# Altium footprint library chipsLibPcb.PcbLib: 20 footprints (part 2 of 2)
Each footprint in its own frame and in the unit in brackets; x right, y up, seen from the top. Pads: shape width x height; smd on the part's side, far side on the other; paste and mask are expansions set on the pad; w line width, h text height; cw(c..) or ccw(c..) is an arc to the next point about the centre after c.
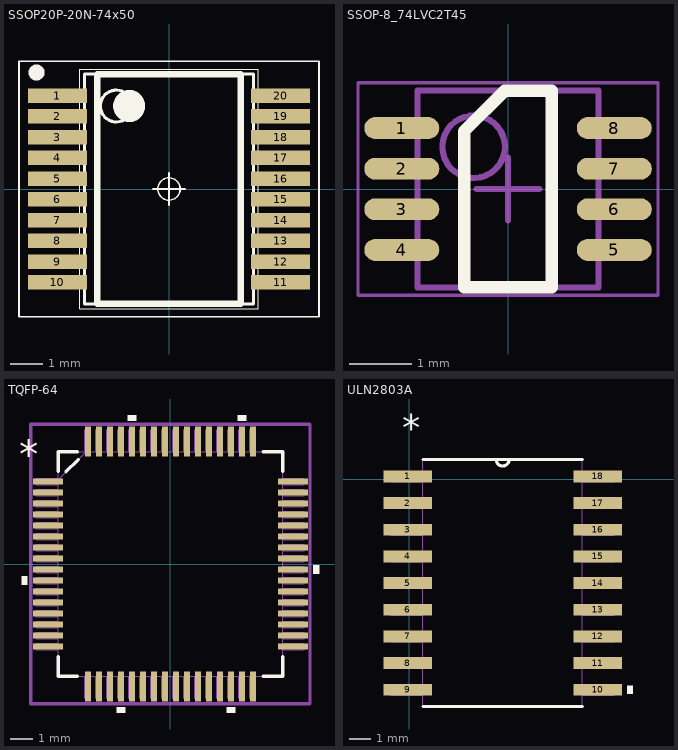
[diagram p1: the footprints below, top view; thin cyan lines are the x and y axes]

## SSOP20P-20N-74x50 [mm]
pads (20):
  rect 1.85x0.45 smd: 1(-3.5,2.925) 2(-3.5,2.275) 3(-3.5,1.625) 4(-3.5,0.975) 5(-3.5,0.325) 6(-3.5,-0.325) 7(-3.5,-0.975) 8(-3.5,-1.625) 9(-3.5,-2.275) 10(-3.5,-2.925) 11(3.5,-2.925) 12(3.5,-2.275) 13(3.5,-1.625) 14(3.5,-0.975) 15(3.5,-0.325) 16(3.5,0.325) 17(3.5,0.975) 18(3.5,1.625) 19(3.5,2.275) 20(3.5,2.925)
Top Overlay:
  circle w0.25: c-4.15,3.65 r0.125
  circle w0.5: c-1.25,2.6 r0.25
  circle w0.1: c-1.65,2.6 r0.5
  circle w0.05: c0,0 r0.35
  lines w0.001: -2.8,-3.75 -2.8,3.75 2.8,3.75 2.8,-3.75 -2.8,-3.75
  lines w0.05: -0.5,0 0.5,0 ; 0,-0.5 0,0.5 ; -4.7,-4 -4.7,4 4.7,4 4.7,-4 -4.7,-4
  lines w0.1: -2.65,-3.6 -2.65,3.6 2.65,3.6 2.65,-3.6 -2.65,-3.6
  lines w0.2: -2.25,-3.6 -2.25,3.6 2.25,3.6 2.25,-3.6 -2.25,-3.6
Mechanical 15:
  text "1" at 0.45,-0.164 h0.75

## SSOP-8_74LVC2T45 [mm]
pads (8):
  oval 1.2x0.35 smd paste+0 mask+0.051: 1(-1.7,0.975) 2(-1.7,0.325) 3(-1.7,-0.325) 4(-1.7,-0.975) 5(1.7,-0.975) 6(1.7,-0.325) 7(1.7,0.325) 8(1.7,0.975)
Top Overlay:
  lines w0.2: -0.7,-1.575 -0.7,0.925 -0.05,1.575 0.7,1.575 0.7,-1.575 -0.7,-1.575
Mechanical 13:
  circle w0.1: c-0.55,0.675 r0.5
  lines w0.1: -1.45,-1.575 1.45,-1.575 1.45,1.575 -1.45,1.575 -1.45,-1.575
Mechanical 15:
  lines w0.05: -2.4,-1.7 2.4,-1.7 2.4,1.7 -2.4,1.7 -2.4,-1.7
  lines w0.1: -0.5,0 0.5,0 ; 0,-0.5 0,0.5
3D body: height 0.25, standoff 0, extent 0,0 0.254,0.254

## TQFP-64 [mil]
pads (64):
  rect 53.5x11 smd: 1(-219.25,147.64) 2(-219.25,127.95) 3(-219.25,108.27) 4(-219.25,88.58) 5(-219.25,68.9) 6(-219.25,49.21) 7(-219.25,29.53) 8(-219.25,9.84) 9(-219.25,-9.84) 10(-219.25,-29.53) 11(-219.25,-49.21) 12(-219.25,-68.9) 13(-219.25,-88.58) 14(-219.25,-108.27) 15(-219.25,-127.95) 16(-219.25,-147.64) 33(219.25,-147.64) 34(219.25,-127.95) 35(219.25,-108.27) 36(219.25,-88.58) 37(219.25,-68.9) 38(219.25,-49.21) 39(219.25,-29.53) 40(219.25,-9.84) 41(219.25,9.84) 42(219.25,29.53) 43(219.25,49.21) 44(219.25,68.9) 45(219.25,88.58) 46(219.25,108.27) 47(219.25,127.95) 48(219.25,147.64)
  rect 11x53.5 smd: 17(-147.64,-219.25) 18(-127.95,-219.25) 19(-108.27,-219.25) 20(-88.58,-219.25) 21(-68.9,-219.25) 22(-49.21,-219.25) 23(-29.53,-219.25) 24(-9.84,-219.25) 25(9.84,-219.25) 26(29.53,-219.25) 27(49.21,-219.25) 28(68.9,-219.25) 29(88.58,-219.25) 30(108.27,-219.25) 31(127.95,-219.25) 32(147.64,-219.25) 49(147.64,219.25) 50(127.95,219.25) 51(108.27,219.25) 52(88.58,219.25) 53(68.9,219.25) 54(49.21,219.25) 55(29.53,219.25) 56(9.84,219.25) 57(-9.84,219.25) 58(-29.53,219.25) 59(-49.21,219.25) 60(-68.9,219.25) 61(-88.58,219.25) 62(-108.27,219.25) 63(-127.95,219.25) 64(-147.64,219.25)
Top Overlay:
  region: -256,-22.03 -266,-22.03 -266,-37.03 -256,-37.03
  region: -81.08,-256 -96.08,-256 -96.08,-266 -81.08,-266
  region: 115.77,-256 100.77,-256 100.77,-266 115.77,-266
  region: 256,-2.34 266,-2.34 266,-17.34 256,-17.34
  region: 135.45,256 120.45,256 120.45,266 135.45,266
  region: -61.4,256 -76.4,256 -76.4,266 -61.4,266
  lines w6: -201,-166.24 -201,-201 -166.24,-201 ; -201,166.24 -201,201 -166.24,201 ; -186.98,165.02 -165.02,186.98 ; 166.24,-201 201,-201 201,-166.24 ; 166.24,201 201,201 201,166.24
  text "*" at -271,172.48 h50
Mechanical 13:
  drawing of 261 lines, arcs and shapes, not listed
  text "*" at -271,172.48 h50
Mechanical 15:
  lines w6: -250,-250 -250,250 250,250 250,-250 -250,-250
3D body: height 10, standoff 0, extent 0,0 10,10

## ULN2803A [mil]
pads (18):
  rect 91x22 smd: 1(-3,5) 2(-3,-45) 3(-3,-95) 4(-3,-145) 5(-3,-195) 6(-3,-245) 7(-3,-295) 8(-3,-345) 9(-3,-395) 10(353,-395) 11(353,-345) 12(353,-295) 13(353,-245) 14(353,-195) 15(353,-145) 16(353,-95) 17(353,-45) 18(353,5)
Top Overlay:
  region: 408.5,-387.5 418.5,-387.5 418.5,-402.5 408.5,-402.5
  lines w6: 25.5,-426.5 324.5,-426.5 ; 25.5,36.5 324.5,36.5 ; 163,36.5 ccw(c175,36.5) 187,36.5
  text "*" at -13,72 h50
Mechanical 1:
  lines w0: 163,36.5 ccw(c175,36.5) 187,36.5 ; -34.5,-405 -34.5,-385 25.5,-385 25.5,-405 -34.5,-405 ; -34.5,-355 -34.5,-335 25.5,-335 25.5,-355 -34.5,-355 ; -34.5,-305 -34.5,-285 25.5,-285 25.5,-305 -34.5,-305 ; -34.5,-255 -34.5,-235 25.5,-235 25.5,-255 -34.5,-255 ; -34.5,-205 -34.5,-185 25.5,-185 25.5,-205 -34.5,-205 ; -34.5,-155 -34.5,-135 25.5,-135 25.5,-155 -34.5,-155 ; -34.5,-105 -34.5,-85 25.5,-85 25.5,-105 -34.5,-105 ; -34.5,-55 -34.5,-35 25.5,-35 25.5,-55 -34.5,-55 ; -34.5,-5 -34.5,15 25.5,15 25.5,-5 -34.5,-5 ; 25.5,-426.5 324.5,-426.5 324.5,36.5 25.5,36.5 25.5,-426.5 ; 324.5,-405 324.5,-385 384.5,-385 384.5,-405 324.5,-405 ; 324.5,-355 324.5,-335 384.5,-335 384.5,-355 324.5,-355 ; 324.5,-305 324.5,-285 384.5,-285 384.5,-305 324.5,-305 ; 324.5,-255 324.5,-235 384.5,-235 384.5,-255 324.5,-255 ; 324.5,-205 324.5,-185 384.5,-185 384.5,-205 324.5,-205 ; 324.5,-155 324.5,-135 384.5,-135 384.5,-155 324.5,-155 ; 324.5,-105 324.5,-85 384.5,-85 384.5,-105 324.5,-105 ; 324.5,-55 324.5,-35 384.5,-35 384.5,-55 324.5,-55 ; 324.5,-5 324.5,15 384.5,15 384.5,-5 324.5,-5
  text "*" at -13,72 h50